# Altium footprint library CONN_SMT.PcbLib: 33 footprints (part 2 of 3)
Each footprint in its own frame and in the unit in brackets; x right, y up, seen from the top. Pads: shape width x height; smd on the part's side, far side on the other; paste and mask are expansions set on the pad; w line width, h text height; cw(c..) or ccw(c..) is an arc to the next point about the centre after c.
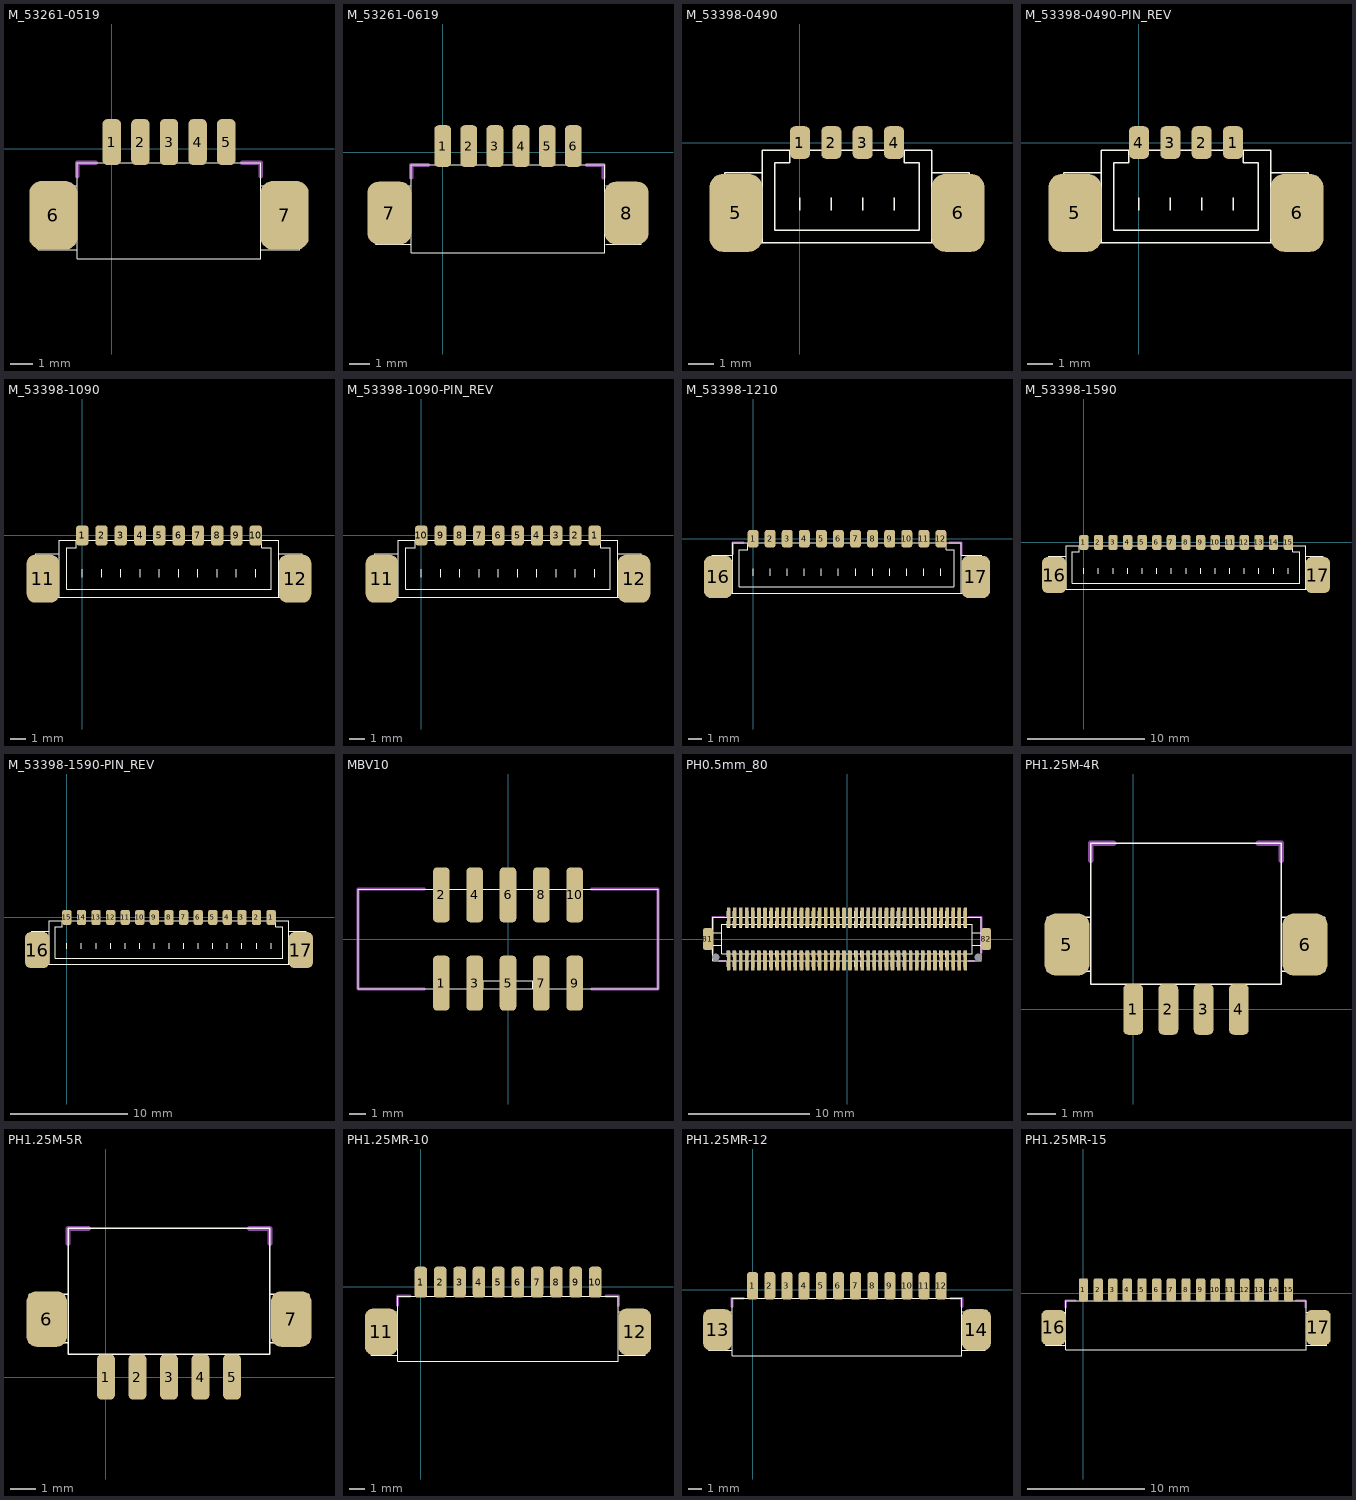
[diagram p1: the footprints below, top view; thin cyan lines are the x and y axes]

## M_53261-0519 [mm] "Molex 53261 series 1.25 mm pitch, 5 way, plug, Rev. 2"
height 3.4
pads (7):
  rrect50% 0.8x2 smd paste+0: 1(0,0.3) 2(1.25,0.3) 3(2.5,0.3) 4(3.75,0.3) 5(5,0.3)
  rrect50% 2.1x3 smd: 6(-2.55,-2.9) 7(7.55,-2.9)
Top Overlay:
  lines w0.05: -1.5,-4.4 -3.2,-4.4 -3.2,-1.6 -1.5,-1.6 ; -0.2,-0.6 -0.2,0 0.2,0 0.2,-0.6 ; 1.05,-0.6 1.05,0 1.45,0 1.45,-0.6 ; 2.3,-0.6 2.3,0 2.7,0 2.7,-0.6 ; 3.55,-0.6 3.55,0 3.95,0 3.95,-0.6 ; 4.8,-0.6 4.8,0 5.2,0 5.2,-0.6 ; 6.5,-4.4 8.2,-4.4 8.2,-1.6 6.5,-1.6 ; -1.5,-4.8 6.5,-4.8 6.5,-0.6 -1.5,-0.6 -1.5,-4.8
Comp Silk:
  lines w0.2: -1.5,-1.2 -1.5,-0.6 -0.7,-0.6 ; 5.7,-0.6 6.5,-0.6 6.5,-1.2
  text ".Designator" at -1.25,-3.75 h1.5

## M_53261-0619 [mm] "Molex 53261 series 1.25 mm pitch, 6 way, plug, Rev. 2"
height 3.4
pads (8):
  rrect50% 0.8x2 smd paste+0: 1(0,0.3) 2(1.25,0.3) 3(2.5,0.3) 4(3.75,0.3) 5(5,0.3) 6(6.25,0.3)
  rrect50% 2.1x3 smd: 7(-2.55,-2.9) 8(8.8,-2.9)
Top Overlay:
  lines w0.05: -1.5,-4.4 -3.2,-4.4 -3.2,-1.6 -1.5,-1.6 ; -0.2,-0.6 -0.2,0 0.2,0 0.2,-0.6 ; 1.05,-0.6 1.05,0 1.45,0 1.45,-0.6 ; 2.3,-0.6 2.3,0 2.7,0 2.7,-0.6 ; 3.55,-0.6 3.55,0 3.95,0 3.95,-0.6 ; 4.8,-0.6 4.8,0 5.2,0 5.2,-0.6 ; 6.05,-0.6 6.05,0 6.45,0 6.45,-0.6 ; 7.8,-4.4 9.5,-4.4 9.5,-1.6 7.8,-1.6 ; -1.5,-4.8 7.75,-4.8 7.75,-0.6 -1.5,-0.6 -1.5,-4.8
Comp Silk:
  lines w0.2: -1.5,-1.2 -1.5,-0.6 -0.7,-0.6 ; 6.9,-0.6 7.7,-0.6 7.7,-1.2
  text ".Designator" at -1.25,-3.75 h1.5

## M_53398-0490 [mm] "Molex 53398-04XX Rev.1"
height 4.7
pads (6):
  rrect50% 0.8x1.3 smd: 1(0,0) 2(1.25,0) 3(2.5,0) 4(3.75,0)
  rrect50% 2.1x3.1 smd: 5(-2.55,-2.8) 6(6.3,-2.8)
Top Overlay:
  lines w0.05: -1.5,-1.2 -3,-1.2 -3,-4 -1.5,-4 ; -0.4,-0.3 -0.4,-0.8 -1,-0.8 -1,-3.5 4.75,-3.5 4.75,-0.8 4.15,-0.8 4.15,-0.3 ; 0,-2.7 0,-2.2 ; 0,-0.3 0,0.3 ; 1.25,-2.7 1.25,-2.2 ; 1.25,-0.3 1.25,0.3 ; 2.5,-2.7 2.5,-2.2 ; 2.5,-0.3 2.5,0.3 ; 3.75,-2.7 3.75,-2.2 ; 3.75,-0.3 3.75,0.3 ; 5.25,-1.2 6.75,-1.2 6.75,-4 5.25,-4 ; -1.5,-4 -1.5,-0.3 5.25,-0.3 5.25,-4 ; -1.5,-4 5.25,-4

## M_53398-0490-PIN_REV [mm] "Molex 53398-04XX Rev.1"
height 4.7
pads (6):
  rrect50% 0.8x1.3 smd: 1(3.75,0) 2(2.5,0) 3(1.25,0) 4(0,0)
  rrect50% 2.1x3.1 smd: 5(-2.55,-2.8) 6(6.3,-2.8)
Top Overlay:
  lines w0.05: -1.5,-1.2 -3,-1.2 -3,-4 -1.5,-4 ; -0.4,-0.3 -0.4,-0.8 -1,-0.8 -1,-3.5 4.75,-3.5 4.75,-0.8 4.15,-0.8 4.15,-0.3 ; 0,-2.7 0,-2.2 ; 0,-0.3 0,0.3 ; 1.25,-2.7 1.25,-2.2 ; 1.25,-0.3 1.25,0.3 ; 2.5,-2.7 2.5,-2.2 ; 2.5,-0.3 2.5,0.3 ; 3.75,-2.7 3.75,-2.2 ; 3.75,-0.3 3.75,0.3 ; 5.25,-1.2 6.75,-1.2 6.75,-4 5.25,-4 ; -1.5,-4 -1.5,-0.3 5.25,-0.3 5.25,-4 ; -1.5,-4 5.25,-4

## M_53398-1090 [mm] "Molex 53398-10XX Rev.1"
height 4.7
pads (12):
  rrect50% 0.8x1.3 smd: 1(0,0) 2(1.25,0) 3(2.5,0) 4(3.75,0) 5(5,0) 6(6.25,0) 7(7.5,0) 8(8.75,0) 9(10,0) 10(11.25,0)
  rrect50% 2.1x3.1 smd: 11(-2.55,-2.8) 12(13.8,-2.8)
Top Overlay:
  lines w0.05: -1.5,-1.2 -3,-1.2 -3,-4 -1.5,-4 ; -0.4,-0.3 -0.4,-0.8 -1,-0.8 -1,-3.5 12.25,-3.5 12.25,-0.8 11.65,-0.8 11.65,-0.3 ; 0,-2.7 0,-2.2 ; 0,-0.3 0,0.3 ; 1.25,-2.7 1.25,-2.2 ; 1.25,-0.3 1.25,0.3 ; 2.5,-2.7 2.5,-2.2 ; 2.5,-0.3 2.5,0.3 ; 3.75,-2.7 3.75,-2.2 ; 3.75,-0.3 3.75,0.3 ; 5,-2.7 5,-2.2 ; 5,-0.3 5,0.3 ; 6.25,-2.7 6.25,-2.2 ; 6.25,-0.3 6.25,0.3 ; 7.5,-2.7 7.5,-2.2 ; 7.5,-0.3 7.5,0.3 ; 8.75,-2.7 8.75,-2.2 ; 8.75,-0.3 8.75,0.3 ; 10,-2.7 10,-2.2 ; 10,-0.3 10,0.3 ; 11.25,-2.7 11.25,-2.2 ; 11.25,-0.3 11.25,0.3 ; 12.75,-1.2 14.25,-1.2 14.25,-4 12.75,-4 ; -1.5,-4 12.75,-4 ; -1.5,-4 -1.5,-0.3 12.75,-0.3 12.75,-4
Comp Silk:
  text ".Designator" at 0,-2.4 h1.5

## M_53398-1090-PIN_REV [mm] "Molex 53398-10XX Rev.1"
height 4.7
pads (12):
  rrect50% 0.8x1.3 smd: 1(11.25,0) 2(10,0) 3(8.75,0) 4(7.5,0) 5(6.25,0) 6(5,0) 7(3.75,0) 8(2.5,0) 9(1.25,0) 10(0,0)
  rrect50% 2.1x3.1 smd: 11(-2.55,-2.8) 12(13.8,-2.8)
Top Overlay:
  lines w0.05: -1.5,-1.2 -3,-1.2 -3,-4 -1.5,-4 ; -0.4,-0.3 -0.4,-0.8 -1,-0.8 -1,-3.5 12.25,-3.5 12.25,-0.8 11.65,-0.8 11.65,-0.3 ; 0,-2.7 0,-2.2 ; 0,-0.3 0,0.3 ; 1.25,-2.7 1.25,-2.2 ; 1.25,-0.3 1.25,0.3 ; 2.5,-2.7 2.5,-2.2 ; 2.5,-0.3 2.5,0.3 ; 3.75,-2.7 3.75,-2.2 ; 3.75,-0.3 3.75,0.3 ; 5,-2.7 5,-2.2 ; 5,-0.3 5,0.3 ; 6.25,-2.7 6.25,-2.2 ; 6.25,-0.3 6.25,0.3 ; 7.5,-2.7 7.5,-2.2 ; 7.5,-0.3 7.5,0.3 ; 8.75,-2.7 8.75,-2.2 ; 8.75,-0.3 8.75,0.3 ; 10,-2.7 10,-2.2 ; 10,-0.3 10,0.3 ; 11.25,-2.7 11.25,-2.2 ; 11.25,-0.3 11.25,0.3 ; 12.75,-1.2 14.25,-1.2 14.25,-4 12.75,-4 ; -1.5,-4 -1.5,-0.3 12.75,-0.3 12.75,-4 ; -1.5,-4 12.75,-4
Comp Silk:
  text ".Designator" at 0,-2.4 h1.5

## M_53398-1210 [mm] "Molex 53398-1210 Rev.1"
height 4.7
pads (14):
  rrect50% 0.8x1.3 smd: 1(0,0) 2(1.25,0) 3(2.5,0) 4(3.75,0) 5(5,0) 6(6.25,0) 7(7.5,0) 8(8.75,0) 9(10,0) 10(11.25,0) 11(12.5,0) 12(13.75,0)
  rrect50% 2.1x3.1 smd: 16(-2.55,-2.8) 17(16.3,-2.8)
Top Overlay:
  lines w0.05: -1.5,-1.2 -3,-1.2 -3,-4 -1.5,-4 ; -0.4,-0.3 -0.4,-0.8 -1,-0.8 -1,-3.5 14.7,-3.5 ; 0,-2.7 0,-2.2 ; 0,-0.3 0,0.3 ; 1.25,-2.7 1.25,-2.2 ; 1.25,-0.3 1.25,0.3 ; 2.5,-2.7 2.5,-2.2 ; 2.5,-0.3 2.5,0.3 ; 3.75,-2.7 3.75,-2.2 ; 3.75,-0.3 3.75,0.3 ; 5,-2.7 5,-2.2 ; 5,-0.3 5,0.3 ; 6.25,-2.7 6.25,-2.2 ; 6.25,-0.3 6.25,0.3 ; 7.5,-2.7 7.5,-2.2 ; 7.5,-0.3 7.5,0.3 ; 8.75,-2.7 8.75,-2.2 ; 8.75,-0.3 8.75,0.3 ; 10,-2.7 10,-2.2 ; 10,-0.3 10,0.3 ; 11.25,-2.7 11.25,-2.2 ; 11.25,-0.3 11.25,0.3 ; 12.5,-2.7 12.5,-2.2 ; 12.5,-0.3 12.5,0.3 ; 13.75,-2.7 13.75,-2.2 ; 13.75,-0.3 13.75,0.3 ; 14.125,-0.3 14.125,-0.8 14.725,-0.8 14.725,-3.5 ; 15.2,-0.3 -1.5,-0.3 -1.5,-4 ; 15.225,-4 15.225,-0.3 ; 15.225,-1.2 16.725,-1.2 16.725,-4 ; 16.7,-4 -1.5,-4
Comp Silk:
  lines w0.18: -1.5,-1.1 -1.5,-0.3 -0.7,-0.3 ; 14.4,-0.3 15.225,-0.3 15.225,-1.15
  text ".Designator" at -0.425,-2.7 h1.52

## M_53398-1590 [mm] "Molex 53398-15XX Rev.1"
height 4.7
pads (17):
  rrect50% 0.8x1.3 smd: 1(0,0) 2(1.25,0) 3(2.5,0) 4(3.75,0) 5(5,0) 6(6.25,0) 7(7.5,0) 8(8.75,0) 9(10,0) 10(11.25,0) 11(12.5,0) 12(13.75,0) 13(15,0) 14(16.25,0) 15(17.5,0)
  rrect50% 2.1x3.1 smd: 16(-2.55,-2.8) 17(20.05,-2.8)
Top Overlay:
  lines w0.05: -1.5,-1.2 -3,-1.2 -3,-4 -1.5,-4 ; -0.4,-0.3 -0.4,-0.8 -1,-0.8 -1,-3.5 18.5,-3.5 18.5,-0.8 17.9,-0.8 17.9,-0.3 ; 0,-2.7 0,-2.2 ; 0,-0.3 0,0.3 ; 1.25,-2.7 1.25,-2.2 ; 1.25,-0.3 1.25,0.3 ; 2.5,-2.7 2.5,-2.2 ; 2.5,-0.3 2.5,0.3 ; 3.75,-2.7 3.75,-2.2 ; 3.75,-0.3 3.75,0.3 ; 5,-2.7 5,-2.2 ; 5,-0.3 5,0.3 ; 6.25,-2.7 6.25,-2.2 ; 6.25,-0.3 6.25,0.3 ; 7.5,-2.7 7.5,-2.2 ; 7.5,-0.3 7.5,0.3 ; 8.75,-2.7 8.75,-2.2 ; 8.75,-0.3 8.75,0.3 ; 10,-2.7 10,-2.2 ; 10,-0.3 10,0.3 ; 11.25,-2.7 11.25,-2.2 ; 11.25,-0.3 11.25,0.3 ; 12.5,-2.7 12.5,-2.2 ; 12.5,-0.3 12.5,0.3 ; 13.75,-2.7 13.75,-2.2 ; 13.75,-0.3 13.75,0.3 ; 15,-2.7 15,-2.2 ; 15,-0.3 15,0.3 ; 16.25,-2.7 16.25,-2.2 ; 16.25,-0.3 16.25,0.3 ; 17.5,-2.7 17.5,-2.2 ; 17.5,-0.3 17.5,0.3 ; 19,-1.2 20.5,-1.2 20.5,-4 19,-4 ; -1.5,-4 19,-4 ; -1.5,-4 -1.5,-0.3 19,-0.3 19,-4

## M_53398-1590-PIN_REV [mm] "Molex 53398-15XX Rev.1"
height 4.7
pads (17):
  rrect50% 0.8x1.3 smd: 1(17.5,0) 2(16.25,0) 3(15,0) 4(13.75,0) 5(12.5,0) 6(11.25,0) 7(10,0) 8(8.75,0) 9(7.5,0) 10(6.25,0) 11(5,0) 12(3.75,0) 13(2.5,0) 14(1.25,0) 15(0,0)
  rrect50% 2.1x3.1 smd: 16(-2.55,-2.8) 17(20.05,-2.8)
Top Overlay:
  lines w0.05: -1.5,-1.2 -3,-1.2 -3,-4 -1.5,-4 ; -0.4,-0.3 -0.4,-0.8 -1,-0.8 -1,-3.5 18.5,-3.5 18.5,-0.8 17.9,-0.8 17.9,-0.3 ; 0,-2.7 0,-2.2 ; 0,-0.3 0,0.3 ; 1.25,-2.7 1.25,-2.2 ; 1.25,-0.3 1.25,0.3 ; 2.5,-2.7 2.5,-2.2 ; 2.5,-0.3 2.5,0.3 ; 3.75,-2.7 3.75,-2.2 ; 3.75,-0.3 3.75,0.3 ; 5,-2.7 5,-2.2 ; 5,-0.3 5,0.3 ; 6.25,-2.7 6.25,-2.2 ; 6.25,-0.3 6.25,0.3 ; 7.5,-2.7 7.5,-2.2 ; 7.5,-0.3 7.5,0.3 ; 8.75,-2.7 8.75,-2.2 ; 8.75,-0.3 8.75,0.3 ; 10,-2.7 10,-2.2 ; 10,-0.3 10,0.3 ; 11.25,-2.7 11.25,-2.2 ; 11.25,-0.3 11.25,0.3 ; 12.5,-2.7 12.5,-2.2 ; 12.5,-0.3 12.5,0.3 ; 13.75,-2.7 13.75,-2.2 ; 13.75,-0.3 13.75,0.3 ; 15,-2.7 15,-2.2 ; 15,-0.3 15,0.3 ; 16.25,-2.7 16.25,-2.2 ; 16.25,-0.3 16.25,0.3 ; 17.5,-2.7 17.5,-2.2 ; 17.5,-0.3 17.5,0.3 ; 19,-1.2 20.5,-1.2 20.5,-4 19,-4 ; -1.5,-4 -1.5,-0.3 19,-0.3 19,-4 ; -1.5,-4 19,-4

## MBV10 [mm] "Auk MBV series 2 mm pitch, 10 way, plug. Rev. 1"
height 5.5
pads (10):
  rrect50% 1x3.3 smd: 1(-4,-2.65) 2(-4,2.65) 3(-2,-2.65) 4(-2,2.65) 5(0,-2.65) 6(0,2.65) 7(2,-2.65) 8(2,2.65) 9(4,-2.65) 10(4,2.65)
Top Overlay:
  lines w0.05: -1.5,-3 -1.5,-2.5 1.5,-2.5 1.5,-3 ; -9,-3 -9,0 -9,3 9,3 9,-3 -9,-3
Comp Silk:
  lines w0.18: -5,-3 -9,-3 -9,3 -5,3 ; 5,-3 9,-3 9,3 5,3
  text "1" at -5.5,-2.5 h1
  text ".Designator" at -7.5,-0.5 h1.5

## PH0.5mm_80 [mm]
height 2.2
pads (84):
  round 0.5 hole 0.6: 0(-10.8,-1.5) 0(10.8,-1.5)
  rrect50% 0.3x1.6 smd: 1(-9.75,1.8) 2(-9.25,1.8) 3(-8.75,1.8) 4(-8.25,1.8) 5(-7.75,1.8) 6(-7.25,1.8) 7(-6.75,1.8) 8(-6.25,1.8) 9(-5.75,1.8) 10(-5.25,1.8) 11(-4.75,1.8) 12(-4.25,1.8) 13(-3.75,1.8) 14(-3.25,1.8) 15(-2.75,1.8) 16(-2.25,1.8) 17(-1.75,1.8) 18(-1.25,1.8) 19(-0.75,1.8) 20(-0.25,1.8) 21(0.25,1.8) 22(0.75,1.8) 23(1.25,1.8) 24(1.75,1.8) 25(2.25,1.8) 26(2.75,1.8) 27(3.25,1.8) 28(3.75,1.8) 29(4.25,1.8) 30(4.75,1.8) 31(5.25,1.8) 32(5.75,1.8) 33(6.25,1.8) 34(6.75,1.8) 35(7.25,1.8) 36(7.75,1.8) 37(8.25,1.8) 38(8.75,1.8) 39(9.25,1.8) 40(9.75,1.8) 41(-9.75,-1.8) 42(-9.25,-1.8) 43(-8.75,-1.8) 44(-8.25,-1.8) 45(-7.75,-1.8) 46(-7.25,-1.8) 47(-6.75,-1.8) 48(-6.25,-1.8) 49(-5.75,-1.8) 50(-5.25,-1.8) 51(-4.75,-1.8) 52(-4.25,-1.8) 53(-3.75,-1.8) 54(-3.25,-1.8) 55(-2.75,-1.8) 56(-2.25,-1.8) 57(-1.75,-1.8) 58(-1.25,-1.8) 59(-0.75,-1.8) 60(-0.25,-1.8) 61(0.25,-1.8) 62(0.75,-1.8) 63(1.25,-1.8) 64(1.75,-1.8) 65(2.25,-1.8) 66(2.75,-1.8) 67(3.25,-1.8) 68(3.75,-1.8) 69(4.25,-1.8) 70(4.75,-1.8) 71(5.25,-1.8) 72(5.75,-1.8) 73(6.25,-1.8) 74(6.75,-1.8) 75(7.25,-1.8) 76(7.75,-1.8) 77(8.25,-1.8) 78(8.75,-1.8) 79(9.25,-1.8) 80(9.75,-1.8)
  rrect50% 0.8x1.8 smd: 81(-11.45,0) 82(11.45,0)
Top Overlay:
  drawing of 652 lines, arcs and shapes, not listed
Comp Silk:
  lines w0.18: -11.05,-1.15 -11.05,1.8 -10.1,1.8 ; -10.5,-1.8 -10.05,-1.8 ; 10.05,-1.8 10.45,-1.8 ; 10.05,1.8 11.05,1.8 11.05,-1.1
  text ".Designator" at -5.05,-0.6 h1.5

## PH1.25M-4R [mm] "HRS DF13 series 1.25 mm pitch, 4 way, plug., right angle. Rev. 1"
height 3.6
pads (6):
  rrect50% 0.7x1.8 smd paste+0: 1(0,0) 2(1.25,0) 3(2.5,0) 4(3.75,0)
  rrect50% 1.6x2.2 smd: 5(-2.35,2.3) 6(6.1,2.3)
Top Overlay:
  lines w0.05: -0.2,0.9 -0.2,-0.3 0.2,-0.3 0.2,0.3 0.2,0.9 ; 1.05,0.9 1.05,-0.275 1.45,-0.275 1.45,0.325 1.45,0.9 ; 2.3,0.9 2.3,-0.3 2.7,-0.3 2.7,0.3 2.7,0.9 ; 3.55,0.9 3.55,-0.3 3.95,-0.3 3.95,0.3 3.95,0.9 ; -3.05,1.35 -1.5,1.35 -1.5,3.275 -3.05,3.275 -3.05,1.35 ; -1.5,0.9 -1.5,3.5 -1.5,5.9 5.25,5.9 5.25,0.9 -1.5,0.9 ; 5.25,1.35 5.25,3.275 6.8,3.275 6.8,1.35 5.25,1.35
Comp Silk:
  lines w0.2: -1.5,5.3 -1.5,5.9 -0.7,5.9 ; 4.45,5.9 5.25,5.9 5.25,5.3
  text ".Designator" at -0.75,2.675 h1.5

## PH1.25M-5R [mm] "HRS DF13 series 1.25 mm pitch, 5 way, plug., right angle. Rev. 1"
height 3.6
pads (7):
  rrect50% 0.7x1.8 smd paste+0: 1(0,0) 2(1.25,0) 3(2.5,0) 4(3.75,0) 5(5,0)
  rrect50% 1.6x2.2 smd: 6(-2.35,2.3) 7(7.35,2.3)
Top Overlay:
  lines w0.05: -0.2,0.9 -0.2,-0.3 0.2,-0.3 0.2,0.3 0.2,0.9 ; 1.05,0.9 1.05,-0.275 1.45,-0.275 1.45,0.325 1.45,0.9 ; 2.3,0.9 2.3,-0.3 2.7,-0.3 2.7,0.3 2.7,0.9 ; 3.55,0.9 3.55,-0.3 3.95,-0.3 3.95,0.3 3.95,0.9 ; 4.8,0.9 4.8,-0.3 5.2,-0.3 5.2,0.3 5.2,0.9 ; -3.05,1.35 -1.5,1.35 -1.5,3.275 -3.05,3.275 -3.05,1.35 ; -1.5,0.9 -1.5,3.5 -1.5,5.9 6.5,5.9 6.5,0.9 -1.5,0.9 ; 6.5,1.35 6.5,3.275 8.05,3.275 8.05,1.35 6.5,1.35
Comp Silk:
  lines w0.2: -1.5,5.3 -1.5,5.9 -0.7,5.9 ; 5.7,5.9 6.5,5.9 6.5,5.3
  text ".Designator" at -0.25,2.75 h1.5

## PH1.25MR-10 [mm] "Molex 53261 series 1.25 mm pitch, 10 way, plug, Rev. 1"
height 3.4
pads (12):
  rrect50% 0.8x2 smd paste+0: 1(0,0.3) 2(1.25,0.3) 3(2.5,0.3) 4(3.75,0.3) 5(5,0.3) 6(6.25,0.3) 7(7.5,0.3) 8(8.75,0.3) 9(10,0.3) 10(11.25,0.3)
  rrect50% 2.1x3 smd: 11(-2.55,-2.9) 12(13.8,-2.9)
Top Overlay:
  lines w0.05: -1.5,-4.4 -3.2,-4.4 -3.2,-1.6 -1.5,-1.6 ; -0.2,-0.6 -0.2,0 0.2,0 0.2,-0.6 ; 1.05,-0.6 1.05,0 1.45,0 1.45,-0.6 ; 2.3,-0.6 2.3,0 2.7,0 2.7,-0.6 ; 3.55,-0.6 3.55,0 3.95,0 3.95,-0.6 ; 4.8,-0.6 4.8,0 5.2,0 5.2,-0.6 ; 6.05,-0.6 6.05,0 6.45,0 6.45,-0.6 ; 7.3,-0.6 7.3,0 7.7,0 7.7,-0.6 ; 8.55,-0.6 8.55,0 8.95,0 8.95,-0.6 ; 9.8,-0.6 9.8,0 10.2,0 10.2,-0.6 ; 11.05,-0.6 11.05,0 11.45,0 11.45,-0.6 ; 12.775,-4.4 14.475,-4.4 14.475,-1.6 12.775,-1.6 ; -1.5,-4.8 -1.5,-0.6 12.75,-0.6 12.75,-4.8 -1.5,-4.8
Comp Silk:
  lines w0.2: -1.5,-1.2 -1.5,-0.6 -0.7,-0.6 ; 11.95,-0.6 12.75,-0.6 12.75,-1.2
  text ".Designator" at -1.925,-3.325 h1.5

## PH1.25MR-12 [mm] "Molex 53261 series 1.25 mm pitch, 12 way, plug, Rev. 1"
height 3.4
pads (14):
  rrect50% 0.8x2 smd paste+0: 1(0,0.3) 2(1.25,0.3) 3(2.5,0.3) 4(3.75,0.3) 5(5,0.3) 6(6.25,0.3) 7(7.5,0.3) 8(8.75,0.3) 9(10,0.3) 10(11.25,0.3) 11(12.5,0.3) 12(13.725,0.3)
  rrect50% 2.1x3 smd: 13(-2.55,-2.9) 14(16.3,-2.9)
Top Overlay:
  lines w0.05: -1.5,-4.4 -3.2,-4.4 -3.2,-1.6 -1.5,-1.6 ; -0.2,-0.6 -0.2,0 0.2,0 0.2,-0.6 ; 1.05,-0.6 1.05,0 1.45,0 1.45,-0.6 ; 2.3,-0.6 2.3,0 2.7,0 2.7,-0.6 ; 3.55,-0.6 3.55,0 3.95,0 3.95,-0.6 ; 4.8,-0.6 4.8,0 5.2,0 5.2,-0.6 ; 6.05,-0.6 6.05,0 6.45,0 6.45,-0.6 ; 7.3,-0.6 7.3,0 7.7,0 7.7,-0.6 ; 8.55,-0.6 8.55,0 8.95,0 8.95,-0.6 ; 9.8,-0.6 9.8,0 10.2,0 10.2,-0.6 ; 11.05,-0.6 11.05,0 11.45,0 11.45,-0.6 ; 12.3,-0.6 12.3,0 12.7,0 12.7,-0.6 ; 13.55,-0.6 13.55,0 13.95,0 13.95,-0.6 ; 15.25,-4.375 16.95,-4.375 16.95,-1.575 15.25,-1.575 ; -1.5,-4.8 -1.5,-0.6 15.25,-0.6 15.25,-4.8 -1.5,-4.8
Comp Silk:
  lines w0.2: -1.5,-1.2 -1.5,-0.6 -0.7,-0.6 ; 14.45,-0.6 15.25,-0.6 15.25,-1.2
  text ".Designator" at -0.45,-3.3 h1.5

## PH1.25MR-15 [mm] "Molex 53261 series 1.25 mm pitch, 15 way, plug, Rev. 1"
height 3.4
pads (17):
  rrect50% 0.8x2 smd paste+0: 1(0,0.3) 2(1.25,0.3) 3(2.5,0.3) 4(3.75,0.3) 5(5,0.3) 6(6.25,0.3) 7(7.5,0.3) 8(8.75,0.3) 9(10,0.3) 10(11.25,0.3) 11(12.5,0.3) 12(13.75,0.3) 13(15,0.3) 14(16.25,0.3) 15(17.5,0.3)
  rrect50% 2.1x3 smd: 16(-2.55,-2.9) 17(20.05,-2.9)
Top Overlay:
  lines w0.05: -1.5,-4.4 -3.2,-4.4 -3.2,-1.6 -1.5,-1.6 ; -0.2,-0.6 -0.2,0 0.2,0 0.2,-0.6 ; 1.05,-0.6 1.05,0 1.45,0 1.45,-0.6 ; 2.3,-0.6 2.3,0 2.7,0 2.7,-0.6 ; 3.55,-0.6 3.55,0 3.95,0 3.95,-0.6 ; 4.8,-0.6 4.8,0 5.2,0 5.2,-0.6 ; 6.05,-0.6 6.05,0 6.45,0 6.45,-0.6 ; 7.3,-0.6 7.3,0 7.7,0 7.7,-0.6 ; 8.55,-0.6 8.55,0 8.95,0 8.95,-0.6 ; 9.8,-0.6 9.8,0 10.2,0 10.2,-0.6 ; 11.05,-0.6 11.05,0 11.45,0 11.45,-0.6 ; 12.3,-0.6 12.3,0 12.7,0 12.7,-0.6 ; 13.55,-0.6 13.55,0 13.95,0 13.95,-0.6 ; 14.8,-0.6 14.8,0 15.2,0 15.2,-0.6 ; 16.05,-0.6 16.05,0 16.45,0 16.45,-0.6 ; 17.275,-0.6 17.275,0 17.675,0 17.675,-0.6 ; 19.05,-4.4 20.75,-4.4 20.75,-1.6 19.05,-1.6 ; -1.5,-4.8 19,-4.8 19,-0.6 -1.5,-0.6 -1.5,-4.8
Comp Silk:
  lines w0.2: -1.5,-1.2 -1.5,-0.6 -0.7,-0.6 ; 18.15,-0.6 18.95,-0.6 18.95,-1.2
  text ".Designator" at 1.25,-3.75 h1.5